# EAGLE library part MCP4726A0T-E/CH (library YosanoLoveButton)
12-Bit Digital-to-Analog Converter with EEPROM
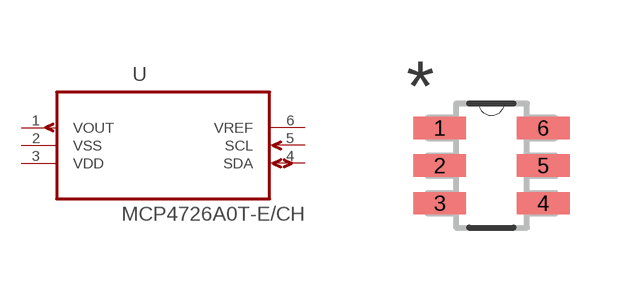
[diagram p1: symbol with the pads of SOT95P270X145-6N; footprint SOT95P270X145-6N]

Designator prefix U

## MCP4726A0T-E/CH (MF: Microchip; MPN: MCP4725A0T-E/CH; OC_AKIZUKI: I-07611; PACKAGE: SOT-23-6)  [SOT95P270X145-6N]
1  VOUT  out
2  VSS  pwr
3  VDD  pwr
4  SDA
5  SCL  in
6  VREF  pwr

## Footprint SOT95P270X145-6N (pad centres in mm)
smd 1.321 x 0.559: 1 -1.295,0.94; 2 -1.295,0; 3 -1.295,-0.94; 4 1.295,-0.94; 5 1.295,0; 6 1.295,0.94